# Altium footprint library FBA.PcbLib: 1 footprints
Each footprint in its own frame and in the unit in brackets; x right, y up, seen from the top. Pads: shape width x height; smd on the part's side, far side on the other; paste and mask are expansions set on the pad; w line width, h text height; cw(c..) or ccw(c..) is an arc to the next point about the centre after c.
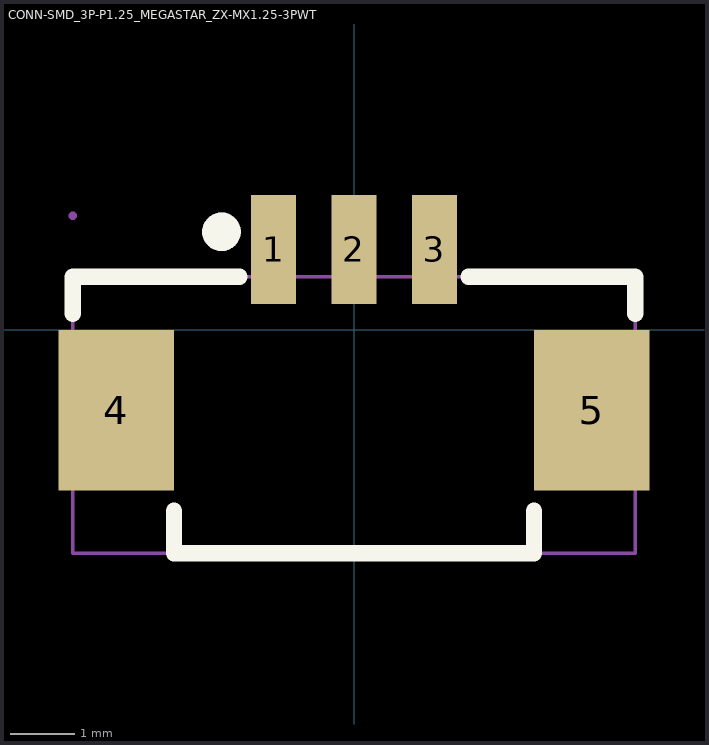
[diagram p0: the footprint, top view; thin cyan lines are the x and y axes]

## CONN-SMD_3P-P1.25_MEGASTAR_ZX-MX1.25-3PWT [mm]
pads (5):
  rect 0.7x1.7 smd paste+0 mask+0.05: 1(-1.25,1.25) 2(0,1.25) 3(1.25,1.25)
  rect 1.8x2.5 smd paste+0 mask+0.05: 4(-3.7,-1.25) 5(3.7,-1.25)
Top Overlay:
  circle w0.3: c-2.062,1.524 r0.15
  lines w0.254: -4.375,0.25 -4.375,0.825 -1.781,0.825 ; -2.8,-2.814 -2.8,-3.475 2.8,-3.475 2.8,-2.814 ; 1.781,0.825 4.375,0.825 4.375,0.25
Mechanical 6:
  circle w0.3: c-2.062,1.524 r0.15
Mechanical 15:
  region: 3.05,-0.25 4.35,-0.25 4.35,-2.25 3.05,-2.25
  region: -1.4,1.775 -1.1,1.775 -1.1,0.675 -1.4,0.675
  region: -0.15,1.775 0.15,1.775 0.15,0.675 -0.15,0.675
  region: 1.1,1.775 1.4,1.775 1.4,0.675 1.1,0.675
  region: -4.35,-0.25 -3.05,-0.25 -3.05,-2.25 -4.35,-2.25
  region: -4.315,1.775 -4.315,1.75 -4.35,1.715 -4.4,1.715 -4.435,1.75 -4.435,1.775 -4.435,1.8 -4.4,1.835 -4.35,1.835 -4.315,1.8 -4.315,1.775
  lines w0.051: -4.375,-3.475 -4.375,0.825 4.375,0.825 4.375,-3.475 -4.375,-3.475